# EAGLE library part MCP4922 (library _motovilo)
MCP4922: 12-bit DAC MCP4902/4912/4922 - 8/10/12-Bit Dual Voltage Output Digital-to-Analog Converter with SPI Interface The MCP49x2 devices are dual 8-bit, 10-bit, and 12-bit buffered voltage output Digital-to-Analog Converters (DACs), respectively. The devices operate from a single 2.7V to 5.5V supply with SPI compatible Serial Peripheral Interface. The user can configure the full-scale range of the device to be VREF or 2 * VREF by setting the Gain Selection Option bit (gain of 1 of 2). RobG
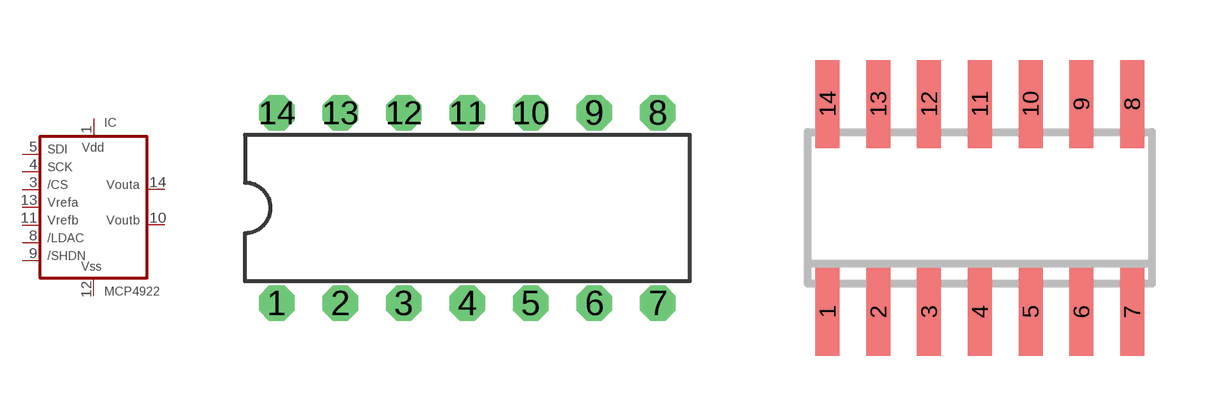
[diagram p8: symbol with the pads of DIL14_; footprints DIL14_, SO-14]

Designator prefix IC

## MCP4922P  [DIL14_]
1  VDD  pwr
3  CS  in
4  SCK  in
5  SDI  in
8  LDAC  in
9  SHDN  in
10  VOUTB  out
11  VREFB  in
12  VSS  pwr
13  VREFA  in
14  VOUTA  out

## MCP4922SN  [SO-14]
Pads as for DIL14_

## Footprint DIL14_ (pad centres in mm)
Dual In Line Package
drill 0.813 pad 1.422 octagon: 1 -7.62,-3.81; 2 -5.08,-3.81; 3 -2.54,-3.81; 4 0,-3.81; 5 2.54,-3.81; 6 5.08,-3.81; 7 7.62,-3.81; 8 7.62,3.81; 9 5.08,3.81; 10 2.54,3.81; 11 0,3.81; 12 -2.54,3.81; 13 -5.08,3.81; 14 -7.62,3.81

## Footprint SO-14 (pad centres in mm)
Small Outline Narrow Plastic Gull Wing 150-mil body, package type SL
smd 0.6 x 2.2: 1 -3.81,-2.6; 2 -2.54,-2.6; 3 -1.27,-2.6; 4 0,-2.6; 5 1.27,-2.6; 6 2.54,-2.6; 7 3.81,-2.6; 8 3.81,2.6; 9 2.54,2.6; 10 1.27,2.6; 11 0,2.6; 12 -1.27,2.6; 13 -2.54,2.6; 14 -3.81,2.6